# EAGLE library part WE-DS_210111003 (library Wurth_Elektronik_Passive_rev16b)
WE-DS D-SUB-Filter, Solder Pin Straight Characteristics Standard type filtered with 1000 pF High attenuation: max. ≥ 40 dB @ 180 MHz Choice of UNC 4/40 or through hole Rated voltage: 100 VDC Rated current @ 20 ºC: 5 A Withstand voltage: 250 VRMS Insulation resistance: min. 1000 MΩ Operating temperature: –55 ºC to +125 ºC Applications Filtering of interfaces External connection to -printer -sensor -display <http://katalog.we-online.de/media/thumbs2/eisos/thb_AbsDSubFilter_gerader_Loetstift_pf2.jpg> Details see: http://katalog.we-online.de/en/pbs/Filter_gerade Created on 2015-05-04 2015 (C) Wurth Elektronik
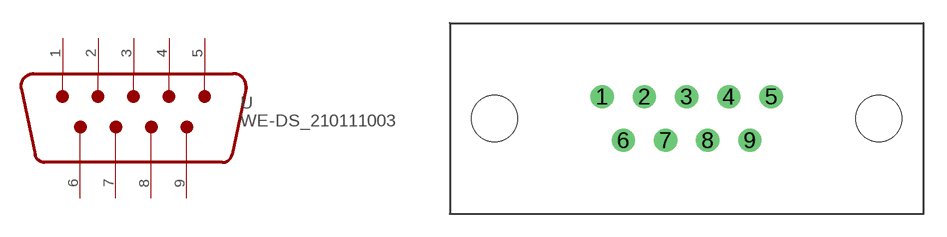
[diagram p188: symbol with the pads of WE-DS_210111003; footprint WE-DS_210111003]

Designator prefix -

## WE-DS_210111003  [WE-DS_210111003]
1  1
2  2
3  3
4  4
5  5
6  6
7  7
8  8
9  9

## Footprint WE-DS_210111003 (pad centres in mm)
drill 1: 1 -5.49,0; 2 -2.74,0; 3 0,0; 4 2.74,0; 5 5.49,0; 6 -4.11,-2.84; 7 -1.37,-2.84; 8 1.37,-2.84; 9 4.11,-2.84
hole 3 at -12.5,-1.42
hole 3 at 12.5,-1.42